# EAGLE library part ST1S10 (library vreg-pulse (1))
3 A, 900 kHz, monolithic synchronous step-down regulator
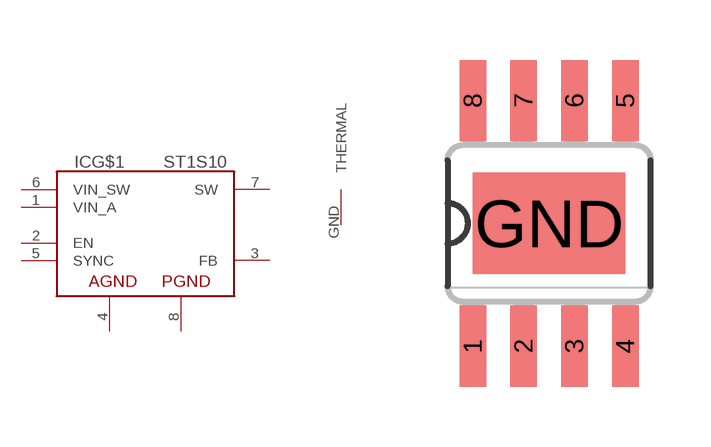
[diagram p6: symbol with the pads of HSOP8; footprint HSOP8]

Designator prefix IC; gates G$1=ST1S10 G$2=THERMAL

## ST1S10PHR  [HSOP8]
1  G$1:VIN_A  pwr
2  G$1:EN  in
3  G$1:FB  in
4  G$1:AGND  pwr
5  G$1:SYNC  in
6  G$1:VIN_SW  pwr
7  G$1:SW  out
8  G$1:PGND  pwr
GND  G$2:THERMAL  pwr

## Footprint HSOP8 (pad centres in mm)
smd 0.66 x 2.032: 1 -1.905,-3.073; 2 -0.635,-3.073; 3 0.635,-3.073; 4 1.905,-3.073; 5 1.905,3.073; 6 0.635,3.073; 7 -0.635,3.073; 8 -1.905,3.073
smd 3.81 x 2.54: GND 0,0